# Altium footprint library Datalogger.PcbLib: 55 footprints (part 4 of 4)
Each footprint in its own frame and in the unit in brackets; x right, y up, seen from the top. Pads: shape width x height; smd on the part's side, far side on the other; paste and mask are expansions set on the pad; w line width, h text height; cw(c..) or ccw(c..) is an arc to the next point about the centre after c.
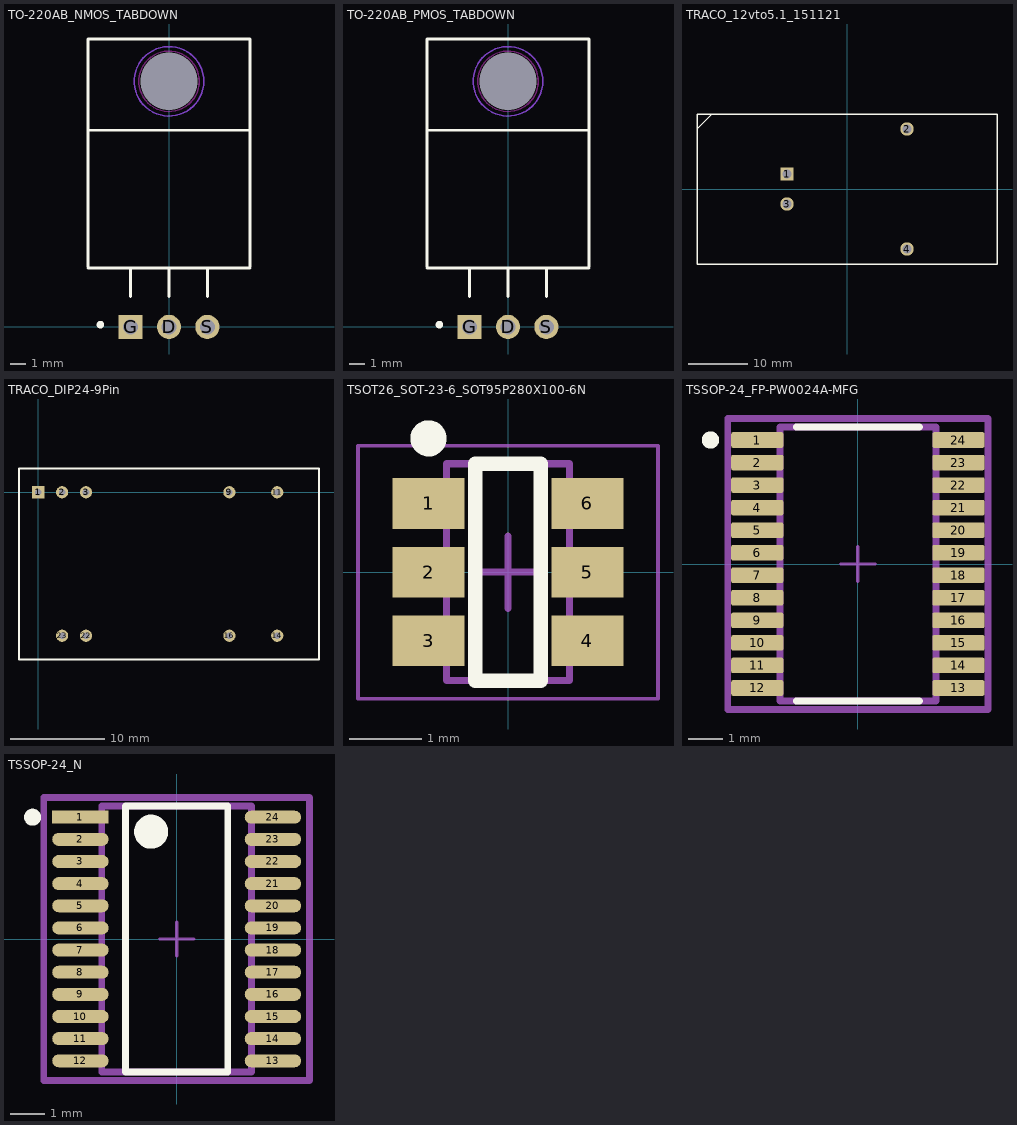
[diagram p3: the footprints below, top view; thin cyan lines are the x and y axes]

## TO-220AB_NMOS_TABDOWN [mm] "TO, Thru-Hole, Horizontal, Heatsink Mounted; 3 In-Line Leads; Pitch 2.54 mm"
height 19.3
pads (4):
  round 0 hole 3.8 unplated: 0(0,16.25)
  round 1.6 hole 1: D(0,0) S(2.54,0)
  rect 1.6x1.6 hole 1: G(-2.54,0)
Top Layer keep-out:
  circle w0.1: c0,16.25 r2
Bottom Layer keep-out:
  circle w0.1: c0,16.25 r2.3
Top Overlay:
  circle w0.25: c-4.54,0.15 r0.125
  lines w0.15: -5.35,13.02 5.35,13.02
  lines w0.2: -5.35,3.9 5.35,3.9 ; -5.35,4 -5.35,19.05 5.35,19.05 5.35,4 ; -2.54,2 -2.54,3.9 ; 0,2 0,3.9 ; 2.54,2 2.54,3.9
Top Designator (Mech11):
  text "N" at -4.84,0.85 h1.52
3D body: height 4.65, standoff 0.2, extent -5.4,3.83 5.4,13.02
3D body: height 1.4, standoff 0.2, extent -5.349,12.991 5.349,19.04

## TO-220AB_PMOS_TABDOWN [mm] "TO, Thru-Hole, Horizontal, Heatsink Mounted; 3 In-Line Leads; Pitch 2.54 mm"
height 19.3
pads (4):
  round 0 hole 3.8 unplated mask+0: 0(0,16.25)
  round 1.6 hole 1: D(0,0) S(2.54,0)
  rect 1.6x1.6 hole 1: G(-2.54,0)
Top Layer keep-out:
  circle w0.1: c0,16.25 r2
Bottom Layer keep-out:
  circle w0.1: c0,16.25 r2.3
Top Overlay:
  circle w0.25: c-4.54,0.15 r0.125
  lines w0.15: -5.35,13.02 5.35,13.02
  lines w0.2: -5.35,3.9 5.35,3.9 ; -5.35,4 -5.35,19.05 5.35,19.05 5.35,4 ; -2.54,2 -2.54,3.9 ; 0,2 0,3.9 ; 2.54,2 2.54,3.9
Top Designator (Mech11):
  text "P" at -4.84,0.85 h1.52
3D body: height 1.4, standoff 0.2, extent -5.349,12.991 5.349,19.04
3D body: height 4.65, standoff 0.2, extent -5.4,3.83 5.4,13.02

## TRACO_12vto5.1_151121 [mil]
pads (4):
  rect 90x90 hole 60: 1(-400,100)
  round 90 hole 60: 2(400,400) 3(-400,-100) 4(400,-400)
Top Overlay:
  lines w10: -1000,400 -900,500 ; -1000,-500 1000,-500 1000,500 -1000,500 -1000,-500
Top Designator (Mech11):
  text "4" at 500,-400 h50
  text "3" at -500,-150 h50
  text "2" at 500,400 h50
  text "1" at -500,150 h50
3D body: height 401.57, standoff 7.87, extent -1000,-500 1000,500

## TRACO_DIP24-9Pin [mm]
height 10.2
pads (9):
  rect 1.3x1.3 hole 0.7: 1(0,0)
  round 1.3 hole 0.7: 2(2.54,0) 3(5.08,0) 9(20.32,0) 11(25.4,0) 14(25.4,-15.24) 16(20.32,-15.24) 22(5.08,-15.24) 23(2.54,-15.24)
Top Overlay:
  lines w0.2: -2.04,-17.78 29.84,-17.78 29.84,2.54 -2.04,2.54 -2.04,-17.78
3D body: height 10.2, standoff 0.2, extent -2,-17.74 29.8,2.5

## TSOT26_SOT-23-6_SOT95P280X100-6N [mm] "TSOT26, SOT-23-6, 6-Leads, Body 2.90x2.80mm, Pitch 0.95mm, IPC Medium Density"
height 1
pads (6):
  rect 1x0.7 smd: 1(-1.099,0.95) 2(-1.099,0) 3(-1.099,-0.95) 4(1.099,-0.95) 5(1.099,0) 6(1.099,0.95)
Top Overlay:
  circle w0.25: c-1.099,1.85 r0.125
  lines w0.2: -0.45,-1.5 -0.45,1.5 0.45,1.5 0.45,-1.5 -0.45,-1.5
Top 3D Body (Mech13):
  lines w0.1: -0.85,-1.5 0.85,-1.5 0.85,1.5 -0.85,1.5 -0.85,-1.5
Top Courtyard:
  lines w0.05: -2.075,-1.75 2.075,-1.75 2.075,1.75 -2.075,1.75 -2.075,-1.75
Top Component Center:
  lines w0.1: -0.5,0 0.5,0 ; 0,-0.5 0,0.5
3D body "TSOT26_SOT95P280X100-6N.step": height 1, standoff 0, extent -1.4,-1.5 1.4,1.5

## TSSOP-24_FP-PW0024A-MFG [mm] "24-pin TSSOP (Thin Shrink Small Outline Package), Texas Instruments Recommended, 0.65 mm pitch. FP-PW0024A-MFG, JEDEC MO-153"
height 1.45
pads (24):
  rrect22% 1.5x0.45 smd paste+0 mask+0: 1(-2.9,3.575) 2(-2.9,2.925) 3(-2.9,2.275) 4(-2.9,1.625) 5(-2.9,0.975) 6(-2.9,0.325) 7(-2.9,-0.325) 8(-2.9,-0.975) 9(-2.9,-1.625) 10(-2.9,-2.275) 11(-2.9,-2.925) 12(-2.9,-3.575) 13(2.9,-3.575) 14(2.9,-2.925) 15(2.9,-2.275) 16(2.9,-1.625) 17(2.9,-0.975) 18(2.9,-0.325) 19(2.9,0.325) 20(2.9,0.975) 21(2.9,1.625) 22(2.9,2.275) 23(2.9,2.925) 24(2.9,3.575)
Top Overlay:
  circle w0.25: c-4.25,3.575 r0.125
  lines w0.2: -1.775,-3.95 1.775,-3.95 ; -1.775,3.95 1.775,3.95
Top Designator (Mech11):
  lines w0.2: -2.25,-3.95 -2.25,3.95 2.25,3.95 2.25,-3.95 -2.25,-3.95
  text ".Designator" at 0,0.188 h1
Top 3D Body (Mech13):
  lines w0.2: -3.75,-4.2 -3.75,4.2 3.75,4.2 3.75,-4.2 -3.75,-4.2
Top Courtyard:
  lines w0.2: -3.75,-4.2 -3.75,4.2 3.75,4.2 3.75,-4.2 -3.75,-4.2
Top Component Center:
  lines w0.1: -0.5,0 0.5,0 ; 0,-0.5 0,0.5
3D body "IC_Texas_Instruments_TCA9548APWR_eec.STEP": height 0.25, standoff 0, extent -3.75,-4.2 3.75,4.2

## TSSOP-24_N [mm] "24-pin TSSOP (Thin Shrink Small Outline Package), 0.65 mm pitch, FP-PW0024A-IPC_B, Medium Density"
height 1.45
pads (24):
  rect 1.655x0.381 smd paste+0 mask+0: 1(-2.825,3.575)
  rrect100% 1.655x0.381 smd paste+0 mask+0: 2(-2.825,2.925) 3(-2.825,2.275) 4(-2.825,1.625) 5(-2.825,0.975) 6(-2.825,0.325) 7(-2.825,-0.325) 8(-2.825,-0.975) 9(-2.825,-1.625) 10(-2.825,-2.275) 11(-2.825,-2.925) 12(-2.825,-3.575) 13(2.825,-3.575) 14(2.825,-2.925) 15(2.825,-2.275) 16(2.825,-1.625) 17(2.825,-0.975) 18(2.825,-0.325) 19(2.825,0.325) 20(2.825,0.975) 21(2.825,1.625) 22(2.825,2.275) 23(2.825,2.925) 24(2.825,3.575)
Top Overlay:
  circle w0.25: c-4.228,3.575 r0.125
  circle w0.5: c-0.748,3.15 r0.25
  lines w0.2: -1.498,-3.9 -1.498,3.9 1.498,3.9 1.498,-3.9 -1.498,-3.9
Top Designator (Mech11):
  lines w0.2: -2.2,-3.9 -2.2,3.9 2.2,3.9 2.2,-3.9 -2.2,-3.9
  text ".Designator" at 0,0.188 h1
Top 3D Body (Mech13):
  lines w0.2: -3.903,-4.15 -3.903,4.15 3.903,4.15 3.903,-4.15 -3.903,-4.15
Top Courtyard:
  lines w0.2: -3.903,-4.15 -3.903,4.15 3.903,4.15 3.903,-4.15 -3.903,-4.15
Top Component Center:
  lines w0.1: -0.5,0 0.5,0 ; 0,-0.5 0,0.5
3D body "IC_Texas_Instruments_TCA9548APWR_eec.STEP": height 0.25, standoff 0, extent -3.903,-4.15 3.903,4.15